# EAGLE library part MSP430R401R (library MRDT-Microcontrollers)
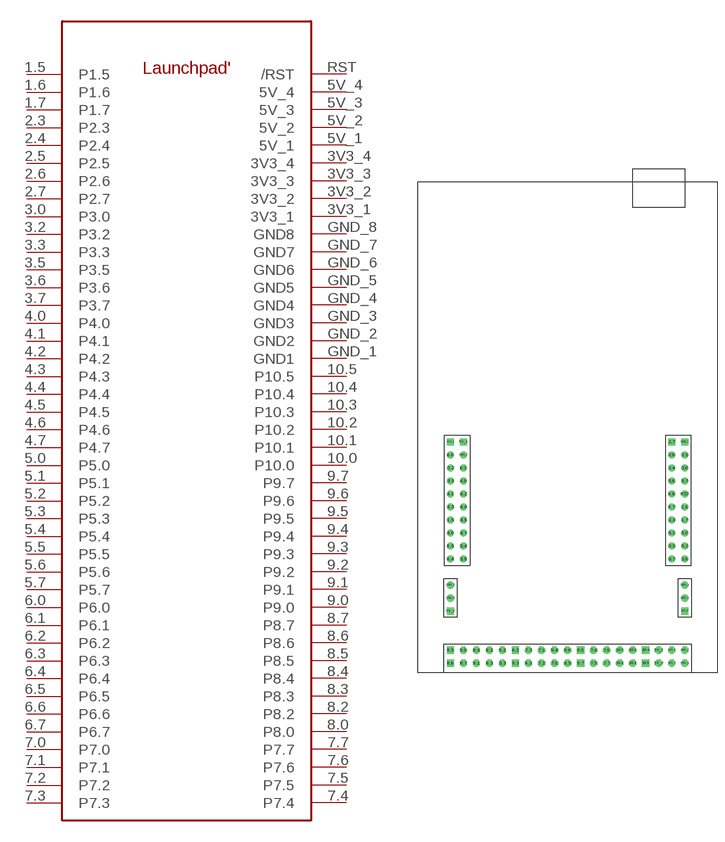
[diagram p4: symbol with the pads of MSP432R401R-LAUNCHPAD; footprint MSP432R401R-LAUNCHPAD]

Designator prefix U

## MSP430R401R  [MSP432R401R-LAUNCHPAD]
1.5  P1.5
1.6  P1.6
1.7  P1.7
2.3  P2.3
2.4  P2.4
2.5  P2.5
2.6  P2.6
2.7  P2.7
3.0  P3.0
3.2  P3.2
3.3  P3.3
3.5  P3.5
3.6  P3.6
3.7  P3.7
3V3_1  3V3_1
3V3_2  3V3_2
3V3_3  3V3_3
3V3_4  3V3_4
4.0  P4.0
4.1  P4.1
4.2  P4.2
4.3  P4.3
4.4  P4.4
4.5  P4.5
4.6  P4.6
4.7  P4.7
5.0  P5.0
5.1  P5.1
5.2  P5.2
5.3  P5.3
5.4  P5.4
5.5  P5.5
5.6  P5.6
5.7  P5.7
5V_1  5V_1
5V_2  5V_2
5V_3  5V_3
5V_4  5V_4
6.0  P6.0
6.1  P6.1
6.2  P6.2
6.3  P6.3
6.4  P6.4
6.5  P6.5
6.6  P6.6
6.7  P6.7
7.0  P7.0
7.1  P7.1
7.2  P7.2
7.3  P7.3
7.4  P7.4
7.5  P7.5
7.6  P7.6
7.7  P7.7
8.0  P8.0
8.2  P8.2
8.3  P8.3
8.4  P8.4
8.5  P8.5
8.6  P8.6
8.7  P8.7
9.0  P9.0
9.1  P9.1
9.2  P9.2
9.3  P9.3
9.4  P9.4
9.5  P9.5
9.6  P9.6
9.7  P9.7
10.0  P10.0
10.1  P10.1
10.2  P10.2
10.3  P10.3
10.4  P10.4
10.5  P10.5
GND_1  GND1
GND_2  GND2
GND_3  GND3
GND_4  GND4
GND_5  GND5
GND_6  GND6
GND_7  GND7
GND_8  GND8
RST  /RST

## Footprint MSP432R401R-LAUNCHPAD (pad centres in mm)
drill 0.9: 1.5 6.35,29.845; 1.6 52.07,32.385; 1.7 52.07,29.845; 2.3 49.53,29.845; 2.4 49.53,40.005; 2.5 52.07,42.545; 2.6 49.53,42.545; 3.0 52.07,40.005; 3.2 6.35,40.005; 3.3 6.35,37.465; 3.5 49.53,24.765; 3.6 52.07,22.225; 3.7 49.53,22.225; 4.0 8.89,37.465; 4.1 6.35,34.925; 4.2 8.89,34.925; 4.3 6.35,32.385; 4.4 8.89,32.385; 4.5 8.89,29.845; 4.6 6.35,27.305; 4.7 8.89,27.305; 5.0 52.07,27.305; 5.1 49.53,27.305; 5.2 52.07,24.765; 5.4 8.89,24.765; 5.5 8.89,22.225; 5.6 49.53,37.465; 5.7 52.07,37.465; 6.0 6.35,42.545; 6.1 8.89,40.005; 6.4 6.35,22.225; 6.5 6.35,24.765; 6.6 49.53,34.925; 6.7 49.53,32.385; GND_1 8.89,42.545; GND_3 6.35,17.145; GND_4 52.07,17.145; GND_5 6.35,14.605; GND_6 52.07,14.605; RST 52.07,34.925
drill 0.9 square: 2.7 49.53,45.085; 3V3_1 6.35,45.085; 3V3_2 52.07,12.065; 5V_1 8.89,45.085; 5V_2 6.35,12.065; 6.2 19.05,4.445; 8.0 31.75,4.445; 8.5 6.35,4.445; 8.6 6.35,1.905; 9.3 19.05,1.905; 9.7 31.75,1.905; 10.4 44.45,4.445; 10.5 44.45,1.905; GND_2 52.07,45.085
drill 0.9 octagon: 3V3_3 49.53,4.445; 3V3_4 49.53,1.905; 5.3 16.51,1.905; 5V_3 46.99,4.445; 5V_4 46.99,1.905; 6.3 21.59,1.905; 7.0 26.67,1.905; 7.1 24.13,4.445; 7.2 24.13,1.905; 7.3 21.59,4.445; 7.4 34.29,4.445; 7.5 34.29,1.905; 7.6 36.83,4.445; 7.7 36.83,1.905; 8.2 13.97,4.445; 8.3 13.97,1.905; 8.4 11.43,4.445; 8.7 8.89,1.905; 9.0 8.89,4.445; 9.1 11.43,1.905; 9.2 16.51,4.445; 9.4 26.67,4.445; 9.5 29.21,1.905; 9.6 29.21,4.445; 10.0 39.37,4.445; 10.1 39.37,1.905; 10.2 41.91,4.445; 10.3 41.91,1.905; GND_7 52.07,4.445; GND_8 52.07,1.905